# EAGLE library part 47219-2001_MICROSD (library MOLEX 47219-2001)
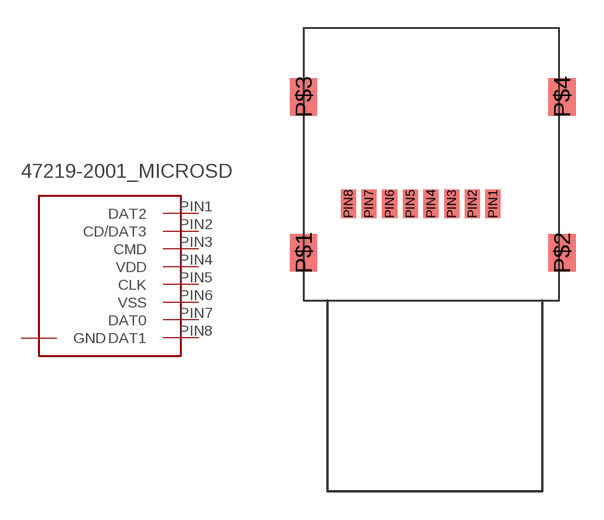
[diagram p0: symbol with the pads of 47219-2001_MICROSD; footprint 47219-2001_MICROSD]

Designator prefix -

## 47219-2001_MICROSD  [47219-2001_MICROSD]
P$1  GND
P$2  GND
P$3  GND
P$4  GND
PIN1  DAT2
PIN2  CD/DAT3
PIN3  CMD
PIN4  VDD
PIN5  CLK
PIN6  VSS
PIN7  DAT0
PIN8  DAT1

## Footprint 47219-2001_MICROSD (pad centres in mm)
smd 1.45 x 2: P$1 0,0; P$2 13.75,0; P$3 0,8.3; P$4 13.75,8.3
smd 0.8 x 1.5: PIN1 10.08,2.6; PIN2 8.98,2.6; PIN3 7.88,2.6; PIN4 6.78,2.6; PIN5 5.68,2.6; PIN6 4.58,2.6; PIN7 3.48,2.6; PIN8 2.38,2.6